# Altium footprint library SparkFun-Boards.PCBLIB: 71 footprints (part 5 of 5)
Each footprint in its own frame and in the unit in brackets; x right, y up, seen from the top. Pads: shape width x height; smd on the part's side, far side on the other; paste and mask are expansions set on the pad; w line width, h text height; cw(c..) or ccw(c..) is an arc to the next point about the centre after c.
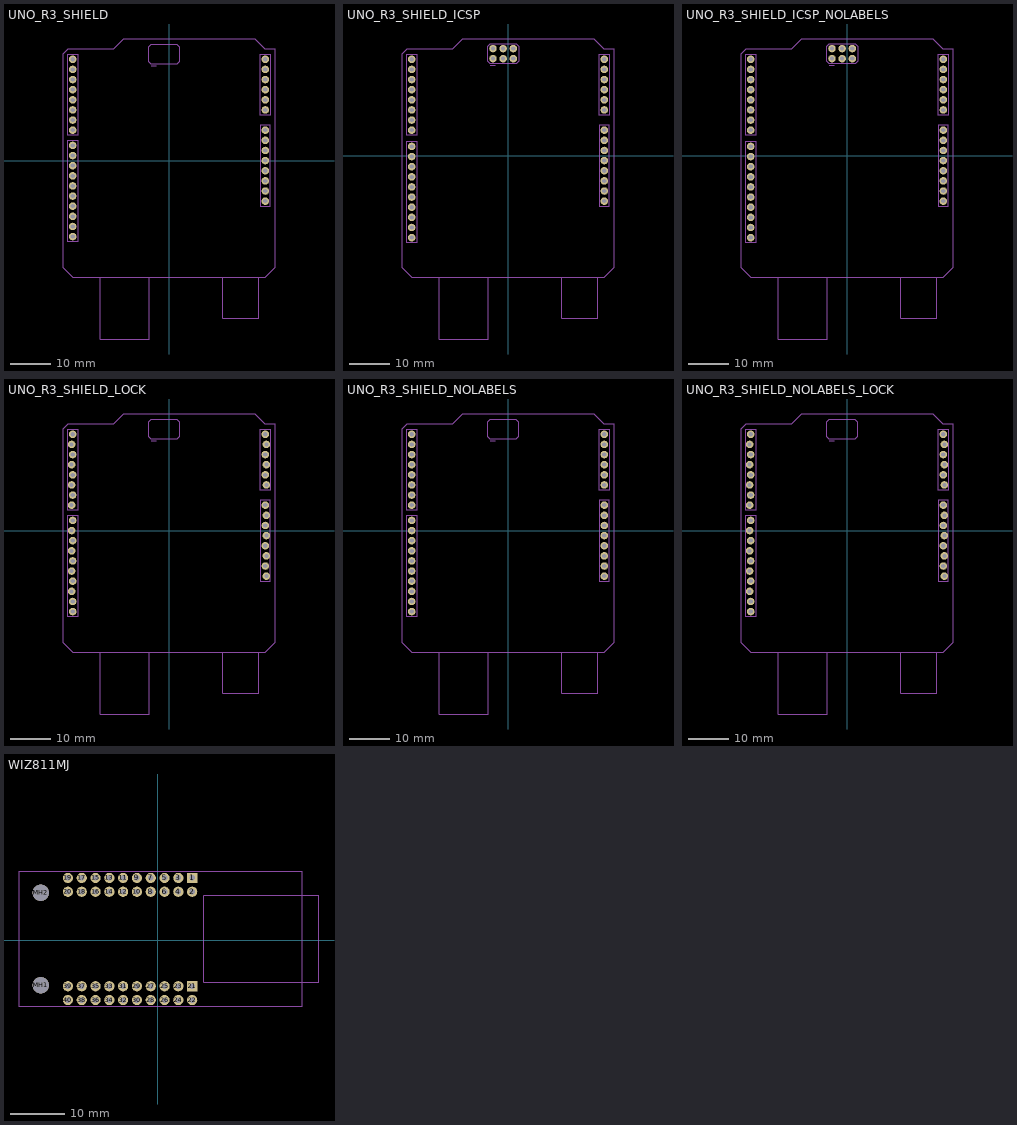
[diagram p4: the footprints below, top view; thin cyan lines are the x and y axes]

## UNO_R3_SHIELD [mil]
pads (32):
  round 74 hole 40: 3.3V(950,-100) 5V(950,0) A0(950,500) A1(950,600) A2(950,700) A3(950,800) A4(950,900) A5(950,1000) AREF(-950,-550) D2(-950,800) D3(-950,700) D4(-950,600) D5(-950,500) D6(-950,400) D7(-950,300) D8(-950,150) D9(-950,50) D10(-950,-50) D11(-950,-150) D12(-950,-250) D13(-950,-350) GND@0(950,100) GND@1(950,200) GND@2(-950,-450) IOREF(950,-300) NC(950,-400) RES(950,-200) RX(-950,1000) SCL(-950,-750) SDA(-950,-650) TX(-950,900) VIN(950,300)
tDocu:
  lines w5: -1000,-800 -900,-800 -900,200 -1000,200 -1000,-800 ; -1000,250 -900,250 -900,1050 -1000,1050 -1000,250 ; 900,-450 1000,-450 1000,350 900,350 900,-450 ; 900,450 1000,450 1000,1050 900,1050 900,450
  lines w8: -175,930 -125,930
  lines w10: 532.68,-1153.94 532.68,-1555.51 887.01,-1555.51 887.01,-1153.94 ; -675.98,-1150 -950,-1150 -1050,-1050 -1050,1050 -1000,1100 -550,1100 -450,1200 850,1200 950,1100 1050,1100 1050,-1050 950,-1150 -195.67,-1150 ; -675.98,-1150 -195.67,-1150 ; -675.98,-1150 -675.98,-1760.24 -195.67,-1760.24 -195.67,-1150 ; -200,975 -175,950 75,950 100,975 100,1125 75,1150 -175,1150 -200,1125 -200,975
  text "RST" at 25,915 h17
  text "ISP" at -70,1040 h17
  text "USB" at -475,-1735 h17
  text "POWER JACK" at 625,-1535 h17
tPlace:
  text "GND" at 895.5,120 h34
  text "GND" at 895.5,220 h34
  text "+5V" at 895.5,20 h34
  text "RST" at 895.5,-180 h34
  text "VIN" at 895.5,320 h34
  text "+3.3V" at 895.5,-80 h34
  text "0" at 895.5,520 h34
  text "1" at 895.5,620 h34
  text "2" at 895.5,720 h34
  text "3" at 895.5,820 h34
  text "4" at 895.5,920 h34
  text "5" at 895.5,1020 h34
  text "GND" at -900,-470 h34
  text "13" at -900,-370 h34
  text "12" at -900,-270 h34
  text "11" at -900,-170 h34
  text "AREF" at -900,-570 h34
  text "10" at -900,-70 h34
  text "9" at -900,30 h34
  text "8" at -900,130 h34
  text "7" at -900,280 h34
  text "6" at -900,380 h34
  text "5" at -900,480 h34
  text "4" at -900,580 h34
  text "3" at -900,680 h34
  text "2" at -900,780 h34
  text "TX" at -900,880 h34
  text "RX" at -900,980 h34
  text "SDA" at -900,-670 h34
  text "SCL" at -900,-770 h34
  text "IOREF" at 895.5,-280 h34

## UNO_R3_SHIELD_ICSP [mil]
pads (38):
  round 74 hole 40: 3.3V(950,-150) 5V(950,-50) 5V_ICSP(-148.03,1055.51) A0(950,450) A1(950,550) A2(950,650) A3(950,750) A4(950,850) A5(950,950) AREF(-950,-610) D2(-950,750) D3(-950,650) D4(-950,550) D5(-950,450) D6(-950,350) D7(-950,250) D8(-950,90) D9(-950,-10) D10(-950,-110) D11(-950,-210) D12(-950,-310) D13(-950,-410) GND@0(950,50) GND@1(950,150) GND@2(-950,-510) GND_ICSP(51.97,1055.51) IOREF(950,-350) MISO(-148.03,955.51) MOSI(-48.03,1055.51) NC(950,-450) RES(950,-250) RST_ICSP(51.97,955.51) RX(-950,950) SCK(-48.03,955.51) SCL(-950,-810) SDA(-950,-710) TX(-950,850) VIN(950,250)
tDocu:
  lines w5: -1000,-860 -900,-860 -900,140 -1000,140 -1000,-860 ; -1000,200 -900,200 -900,1000 -1000,1000 -1000,200 ; 900,-500 1000,-500 1000,300 900,300 900,-500 ; 900,400 1000,400 1000,1000 900,1000 900,400
  lines w8: -175,885 -125,885
  lines w10: 532.68,-1203.94 532.68,-1605.51 887.01,-1605.51 887.01,-1203.94 ; -675.98,-1200 -950,-1200 -1050,-1100 -1050,1000 -1000,1050 -550,1050 -450,1150 850,1150 950,1050 1050,1050 1050,-1100 950,-1200 -195.67,-1200 ; -675.98,-1200 -195.67,-1200 ; -675.98,-1200 -675.98,-1810.24 -195.67,-1810.24 -195.67,-1200 ; -200,930 -175,905 80,905 105,930 105,1080 80,1105 -175,1105 -200,1080 -200,930
  text "USB" at -500,-1770 h34
  text "PWR JACK" at 550,-1570 h34
tPlace:
  lines w8: -175,885 -125,885
  lines w10: -200,930 -200,1080 -175,1105 80,1105 105,1080 105,930 80,905 -175,905 -200,930
  text "GND" at 895.5,70 h34
  text "GND" at 895.5,170 h34
  text "+5V" at 895.5,-30 h34
  text "RST" at 895.5,-230 h34
  text "VIN" at 895.5,270 h34
  text "+3.3V" at 895.5,-130 h34
  text "0" at 895.5,470 h34
  text "1" at 895.5,570 h34
  text "2" at 895.5,670 h34
  text "3" at 895.5,770 h34
  text "4" at 895.5,870 h34
  text "5" at 895.5,970 h34
  text "Analog In" at 795.5,855 h34
  text "GND" at -900,-530 h34
  text "13" at -900,-430 h34
  text "12" at -900,-330 h34
  text "11" at -900,-230 h34
  text "AREF" at -900,-630 h34
  text "10" at -900,-130 h34
  text "9" at -900,-30 h34
  text "8" at -900,70 h34
  text "7" at -900,230 h34
  text "6" at -900,330 h34
  text "5" at -900,430 h34
  text "4" at -900,530 h34
  text "3" at -900,630 h34
  text "2" at -900,730 h34
  text "TX" at -900,830 h34
  text "RX" at -900,930 h34
  text "SDA" at -900,-730 h34
  text "SCL" at -900,-830 h34
  text "IOREF" at 895.5,-330 h34

## UNO_R3_SHIELD_ICSP_NOLABELS [mil]
pads (38):
  round 74 hole 40: 3.3V(950,-150) 5V(950,-50) 5V_ICSP(-148.03,1055.51) A0(950,450) A1(950,550) A2(950,650) A3(950,750) A4(950,850) A5(950,950) AREF(-950,-610) D2(-950,750) D3(-950,650) D4(-950,550) D5(-950,450) D6(-950,350) D7(-950,250) D8(-950,90) D9(-950,-10) D10(-950,-110) D11(-950,-210) D12(-950,-310) D13(-950,-410) GND@0(950,50) GND@1(950,150) GND@2(-950,-510) GND_ICSP(51.97,1055.51) IOREF(950,-350) MISO(-148.03,955.51) MOSI(-48.03,1055.51) NC(950,-450) RES(950,-250) RST_ICSP(51.97,955.51) RX(-950,950) SCK(-48.03,955.51) SCL(-950,-810) SDA(-950,-710) TX(-950,850) VIN(950,250)
tDocu:
  lines w5: -1000,-860 -900,-860 -900,140 -1000,140 -1000,-860 ; -1000,200 -900,200 -900,1000 -1000,1000 -1000,200 ; 900,-500 1000,-500 1000,300 900,300 900,-500 ; 900,400 1000,400 1000,1000 900,1000 900,400
  lines w8: -175,885 -125,885
  lines w10: 532.68,-1203.94 532.68,-1605.51 887.01,-1605.51 887.01,-1203.94 ; -675.98,-1200 -950,-1200 -1050,-1100 -1050,1000 -1000,1050 -550,1050 -450,1150 850,1150 950,1050 1050,1050 1050,-1100 950,-1200 -195.67,-1200 ; -675.98,-1200 -195.67,-1200 ; -675.98,-1200 -675.98,-1810.24 -195.67,-1810.24 -195.67,-1200 ; -200,930 -175,905 80,905 105,930 105,1080 80,1105 -175,1105 -200,1080 -200,930
  text "GND" at 895.5,70 h34
  text "GND" at 895.5,170 h34
  text "+5V" at 895.5,-30 h34
  text "RST" at 895.5,-230 h34
  text "VIN" at 895.5,270 h34
  text "+3.3V" at 895.5,-130 h34
  text "0" at 895.5,470 h34
  text "1" at 895.5,570 h34
  text "2" at 895.5,670 h34
  text "3" at 895.5,770 h34
  text "4" at 895.5,870 h34
  text "5" at 895.5,970 h34
  text "Analog In" at 795.5,855 h34
  text "GND" at -900,-530 h34
  text "13" at -900,-430 h34
  text "12" at -900,-330 h34
  text "11" at -900,-230 h34
  text "AREF" at -900,-630 h34
  text "10" at -900,-130 h34
  text "9" at -900,-30 h34
  text "8" at -900,70 h34
  text "7" at -900,230 h34
  text "6" at -900,330 h34
  text "5" at -900,430 h34
  text "4" at -900,530 h34
  text "3" at -900,630 h34
  text "2" at -900,730 h34
  text "TX" at -900,830 h34
  text "RX" at -900,930 h34
  text "SDA" at -900,-730 h34
  text "SCL" at -900,-830 h34
  text "IOREF" at 895.5,-330 h34
  text "USB" at -450,-1750 h27.2
  text "PWR JACK" at 700,-1550 h27.2

## UNO_R3_SHIELD_LOCK [mil]
pads (32):
  round 74 hole 40: 3.3V(950,-150) 5V(960,-50) A0(960,450) A1(950,550) A2(960,650) A3(950,750) A4(960,850) A5(950,950) AREF(-960,-600) D2(-950,750) D3(-960,650) D4(-950,550) D5(-960,450) D6(-950,350) D7(-960,250) D8(-950,100) D9(-960,0) D10(-950,-100) D11(-960,-200) D12(-950,-300) D13(-960,-400) GND@0(950,50) GND@1(960,150) GND@2(-950,-500) IOREF(950,-350) NC(960,-450) RES(960,-250) RX(-950,950) SCL(-950,-800) SDA(-950,-700) TX(-960,850) VIN(950,250)
tDocu:
  lines w5: -1000,-850 -900,-850 -900,150 -1000,150 -1000,-850 ; -1000,200 -900,200 -900,1000 -1000,1000 -1000,200 ; 900,-500 1000,-500 1000,300 900,300 900,-500 ; 900,400 1000,400 1000,1000 900,1000 900,400
  lines w8: -175,880 -125,880
  lines w10: 532.68,-1203.94 532.68,-1605.51 887.01,-1605.51 887.01,-1203.94 ; -675.98,-1200 -950,-1200 -1050,-1100 -1050,1000 -1000,1050 -550,1050 -450,1150 850,1150 950,1050 1050,1050 1050,-1100 950,-1200 -195.67,-1200 ; -675.98,-1200 -195.67,-1200 ; -675.98,-1200 -675.98,-1810.24 -195.67,-1810.24 -195.67,-1200 ; -200,925 -175,900 75,900 100,925 100,1075 75,1100 -175,1100 -200,1075 -200,925
  text "RST" at 25,865 h17
  text "ISP" at -70,990 h17
  text "USB" at -450,-1750 h34
  text "PWR JACK" at 700,-1550 h34
tPlace:
  text "GND" at 895.5,70 h34
  text "GND" at 895.5,170 h34
  text "+5V" at 895.5,-30 h34
  text "RST" at 895.5,-230 h34
  text "VIN" at 895.5,270 h34
  text "+3.3V" at 895.5,-130 h34
  text "0" at 895.5,470 h34
  text "1" at 895.5,570 h34
  text "2" at 895.5,670 h34
  text "3" at 895.5,770 h34
  text "4" at 895.5,870 h34
  text "5" at 895.5,970 h34
  text "Analog In" at 795.5,855 h34
  text "GND" at -900,-520 h34
  text "13" at -900,-420 h34
  text "12" at -900,-320 h34
  text "11" at -900,-220 h34
  text "AREF" at -900,-620 h34
  text "10" at -900,-120 h34
  text "9" at -900,-20 h34
  text "8" at -900,80 h34
  text "7" at -900,230 h34
  text "6" at -900,330 h34
  text "5" at -900,430 h34
  text "4" at -900,530 h34
  text "3" at -900,630 h34
  text "2" at -900,730 h34
  text "TX" at -900,830 h34
  text "RX" at -900,930 h34
  text "SDA" at -900,-720 h34
  text "SCL" at -900,-820 h34
  text "IOREF" at 895.5,-330 h34

## UNO_R3_SHIELD_NOLABELS [mil]
pads (32):
  round 74 hole 40: 3.3V(950,-150) 5V(950,-50) A0(950,450) A1(950,550) A2(950,650) A3(950,750) A4(950,850) A5(950,950) AREF(-950,-600) D2(-950,750) D3(-950,650) D4(-950,550) D5(-950,450) D6(-950,350) D7(-950,250) D8(-950,100) D9(-950,0) D10(-950,-100) D11(-950,-200) D12(-950,-300) D13(-950,-400) GND@0(950,50) GND@1(950,150) GND@2(-950,-500) IOREF(950,-350) NC(950,-450) RES(950,-250) RX(-950,950) SCL(-950,-800) SDA(-950,-700) TX(-950,850) VIN(950,250)
tDocu:
  lines w5: -1000,-850 -900,-850 -900,150 -1000,150 -1000,-850 ; -1000,200 -900,200 -900,1000 -1000,1000 -1000,200 ; 900,-500 1000,-500 1000,300 900,300 900,-500 ; 900,400 1000,400 1000,1000 900,1000 900,400
  lines w8: -175,880 -125,880
  lines w10: 532.68,-1203.94 532.68,-1605.51 887.01,-1605.51 887.01,-1203.94 ; -675.98,-1200 -950,-1200 -1050,-1100 -1050,1000 -1000,1050 -550,1050 -450,1150 850,1150 950,1050 1050,1050 1050,-1100 950,-1200 -195.67,-1200 ; -675.98,-1200 -195.67,-1200 ; -675.98,-1200 -675.98,-1810.24 -195.67,-1810.24 -195.67,-1200 ; -200,925 -175,900 75,900 100,925 100,1075 75,1100 -175,1100 -200,1075 -200,925
  text "RST" at 25,865 h17
  text "ISP" at -70,990 h31
  text "USB" at -450,-1750 h27.2
  text "PWR JACK" at 700,-1550 h27.2

## UNO_R3_SHIELD_NOLABELS_LOCK [mil]
pads (32):
  round 74 hole 40: 3.3V(950,-150) 5V(960,-50) A0(960,450) A1(950,550) A2(960,650) A3(950,750) A4(960,850) A5(950,950) AREF(-960,-600) D2(-950,750) D3(-960,650) D4(-950,550) D5(-960,450) D6(-950,350) D7(-960,250) D8(-950,100) D9(-960,0) D10(-950,-100) D11(-960,-200) D12(-950,-300) D13(-960,-400) GND@0(950,50) GND@1(960,150) GND@2(-950,-500) IOREF(950,-350) NC(960,-450) RES(960,-250) RX(-950,950) SCL(-950,-800) SDA(-950,-700) TX(-960,850) VIN(950,250)
tDocu:
  lines w5: -1000,-850 -900,-850 -900,150 -1000,150 -1000,-850 ; -1000,200 -900,200 -900,1000 -1000,1000 -1000,200 ; 900,-500 1000,-500 1000,300 900,300 900,-500 ; 900,400 1000,400 1000,1000 900,1000 900,400
  lines w8: -175,880 -125,880
  lines w10: 532.68,-1203.94 532.68,-1605.51 887.01,-1605.51 887.01,-1203.94 ; -675.98,-1200 -950,-1200 -1050,-1100 -1050,1000 -1000,1050 -550,1050 -450,1150 850,1150 950,1050 1050,1050 1050,-1100 950,-1200 -195.67,-1200 ; -675.98,-1200 -195.67,-1200 ; -675.98,-1200 -675.98,-1810.24 -195.67,-1810.24 -195.67,-1200 ; -200,925 -175,900 75,900 100,925 100,1075 75,1100 -175,1100 -200,1075 -200,925
  text "RST" at 25,865 h17
  text "ISP" at -70,990 h17
  text "USB" at -450,-1750 h27.2
  text "PWR JACK" at 700,-1550 h27.2

## WIZ811MJ [mil]
pads (42):
  rect 74x74 / inner round 68.37 / far side rect 74x74 hole 40.16: 1(250,450) 21(250,-334.25)
  round 74 hole 40.16: 2(250,350) 3(150,450) 4(150,350) 5(50,450) 6(50,350) 7(-50,450) 8(-50,350) 9(-150,450) 10(-150,350) 11(-250,450) 12(-250,350) 13(-350,450) 14(-350,350) 15(-450,450) 16(-450,350) 17(-550,450) 18(-550,350) 19(-650,450) 20(-650,350) 22(250,-434.25) 23(150,-334.25) 24(150,-434.25) 25(50,-334.25) 26(50,-434.25) 27(-50,-334.25) 28(-50,-434.25) 29(-150,-334.25) 30(-150,-434.25) 31(-250,-334.25) 32(-250,-434.25) 33(-350,-334.25) 34(-350,-434.25) 35(-450,-334.25) 36(-450,-434.25) 37(-550,-334.25) 38(-550,-434.25) 39(-650,-334.25) 40(-650,-434.25)
  round 118.11 hole 118.11 unplated: MH1(-846.85,-326.77) MH2(-846.85,342.52)
tDocu:
  lines w5: 334.25,-305.12 1168.9,-305.12 1168.9,320.87 334.25,320.87 334.25,-305.12
  text "J1" at 294.88,381.89 h42.5
  text "J2" at 294.88,-405.51 h42.5
  text "WIZnet" at 491.73,421.26 h42.5
  text "WIZ811MJ REV1.0" at 385.43,-468.5 h42.5
tPlace:
  lines w8: -1004.33,-484.25 -1004.33,500 1042.91,500 1042.91,-484.25 -1004.33,-484.25